# Altium schematic symbol library CAP 470nF 50V.Schlib: 1 symbol
Pins are listed as number, name and electrical type; pins without a type are passive.

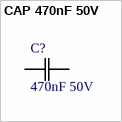
[diagram p0: symbol CAP 470nF 50V]

## CAP 470nF 50V
designator C?, comment 470nF 50V
CAP CER 0.1UF 50V X7R 0805
pins: 1 C1, 2 C2